# Altium footprint library PcbLib1.PcbLib: 5 footprints
Each footprint in its own frame and in the unit in brackets; x right, y up, seen from the top. Pads: shape width x height; smd on the part's side, far side on the other; paste and mask are expansions set on the pad; w line width, h text height; cw(c..) or ccw(c..) is an arc to the next point about the centre after c.
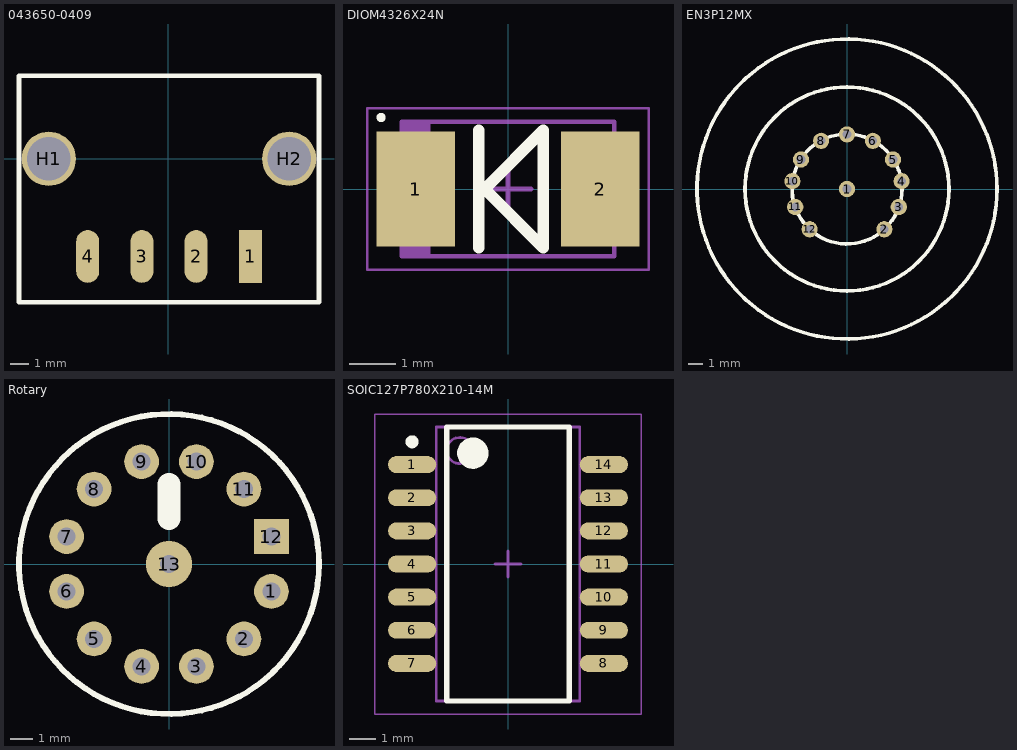
[diagram p0: the footprints below, top view; thin cyan lines are the x and y axes]

## 043650-0409 [mm]
pads (6):
  rect 1.27x2.92 smd: 1(4.546,-5.398)
  oval 1.27x2.92 smd: 2(1.546,-5.398) 3(-1.454,-5.398) 4(-4.454,-5.398)
  round 3 hole 2.41: H1(-6.604,0.008) H2(6.696,0.008)
Top Overlay:
  lines w0.254: -8.255,4.608 -8.254,4.608 ; -8.254,4.608 -8.254,-7.938 8.346,-7.938 8.346,4.608 -8.254,4.608
3D body "436500409.stp": height 5.58, standoff -2.03, extent -7.825,-6.29 7.825,4.45

## DIOM4326X24N [mm] "Molded Diode, 2-Leads, Body 4.30x2.61mm, IPC Medium Density"
height 2.4
pads (2):
  rect 1.7x2.5 smd: 1(-2,0) 2(2,0)
Top Overlay:
  circle w0.1: c-2.75,1.55 r0.05
  lines w0.254: -0.635,-1.27 -0.635,1.27 ; -0.508,0 0.762,1.27 0.762,-1.27 -0.508,0
Mechanical 13:
  rectangle: -2.3,-1.46 -1.681,1.46
  lines w0.1: -2.3,-1.46 2.3,-1.46 2.3,1.46 -2.3,1.46 -2.3,-1.46
Mechanical 15:
  lines w0.05: -3.05,-1.75 3.05,-1.75 3.05,1.75 -3.05,1.75 -3.05,-1.75
  lines w0.1: -0.5,0 0.5,0 ; 0,-0.5 0,0.5
3D body: height 2.4, standoff 0, extent -2.3,-1.46 2.3,1.46

## EN3P12MX [mm] "Switchcraft Connector"
pads (12):
  round 1.127 hole 0.6: 1(0,0) 2(2.6,-2.8) 3(3.6,-1.25) 4(3.8,0.55) 5(3.2,2.05) 6(1.8,3.35) 7(0,3.8) 8(-1.8,3.35) 9(-3.2,2.05) 10(-3.8,0.55) 11(-3.6,-1.25) 12(-2.6,-2.8)
Top Overlay:
  circle w0.254: c0,0 r10.431
  circle w0.254: c0,0 r7.088
  circle w0.254: c0,0 r3.821
3D body "EN3P2MX.step": height 21.01, standoff -5.71, extent -10.312,-10.311 10.312,10.312

## Rotary [mil]
pads (13):
  round 60 hole 31.5: 1(176.73,-47.36) 2(129.37,-129.37) 3(47.36,-176.77) 4(-47.36,-176.77) 5(-129.37,-129.37) 6(-176.77,-47.36) 7(-176.73,47.36) 8(-129.37,129.37) 9(-47.36,176.73) 10(47.36,176.73) 11(129.37,129.37)
  rect 60x60 hole 31.5: 12(176.73,47.36)
  round 80 hole 31.5: 13(0,0)
Top Overlay:
  circle w10: c0,0 r258.92
  lines w39.37: 0,78.74 0,137.8
3D body "FSAEL-18-09-ST-A0003-00011.step": height 965.5, standoff -124.5, extent -250.39,-249.99 250,250.01

## SOIC127P780X210-14M [mm] "SOIC, 14-Leads, Body 10.30x5.25mm, Pitch 1.27mm, IPC Low Density"
height 2.1
pads (14):
  oval 1.85x0.65 smd: 1(-3.675,3.81) 2(-3.675,2.54) 3(-3.675,1.27) 4(-3.675,0) 5(-3.675,-1.27) 6(-3.675,-2.54) 7(-3.675,-3.81) 8(3.675,-3.81) 9(3.675,-2.54) 10(3.675,-1.27) 11(3.675,0) 12(3.675,1.27) 13(3.675,2.54) 14(3.675,3.81)
Top Overlay:
  circle w0.6: c-1.35,4.25 r0.3
  circle w0.25: c-3.675,4.685 r0.125
  lines w0.2: -2.35,-5.25 2.35,-5.25 2.35,5.25 -2.35,5.25 -2.35,-5.25
Mechanical 13:
  circle w0.1: c-1.85,4.35 r0.5
  lines w0.1: -2.75,-5.25 2.75,-5.25 2.75,5.25 -2.75,5.25 -2.75,-5.25
Mechanical 15:
  lines w0.05: -5.1,-5.75 5.1,-5.75 5.1,5.75 -5.1,5.75 -5.1,-5.75
  lines w0.1: -0.5,0 0.5,0 ; 0,-0.5 0,0.5
3D body: height 2.1, standoff 0.1, extent -2.75,-5.25 2.75,5.25